# Altium integrated library Inductor.IntLib: 6 symbols
Pins are listed as number, name and electrical type; pins without a type are passive.

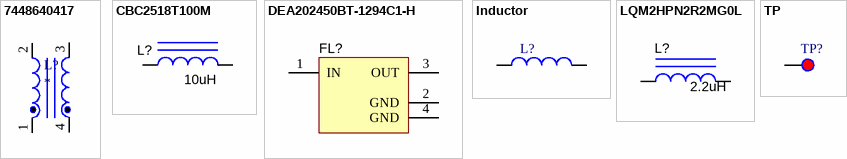
[diagram p0: symbols 7448640417 to TP]

## 7448640417
designator L?
footprint 7448640417
pins: 1, 2, 3, 4

## CBC2518T100M
designator L?  value 10uH  (hidden comment: CBC2518T100M)
Inductor, Wirewound, Ceramic, 10 µH, 0.48 A, 0.36 ohm, SMD; Manufacturer: Taiyo Yuden; Ind_H: 10.0E-6; ValueDisplayed: 10µH; Imax_A: 0.48; Irms: 0.68A @ 40C rise; Isat: 0.48A @ 30% inductance drop; DCR_ohm: 0.36; Value2: 0.48A; SymbolVersion: 2008-07-23; CompType: Inductor; PartNumber: CBC2518T100M; Value1: 0.36 ohm; Technology: Wirewound; MountType: SMT; Material: Ceramic; PackageReference: 2.5x1.8x1.8mm; Published: 2008-06-26; Publisher: Texas Instruments; LatestRevisionDate: 2015-02-17; ComponentLink1Description: Datasheet link; ComponentLink1URL: http://www.yuden.co.jp/productdata/catalog/en/wound02_e.pdf; RoHS: Y; Supplier 1: Digi-Key; Supplier Part Number 1: 587-1613-1-ND; Supplier 2: Farnell; Supplier Part Number 2: 1786111
signal-integrity model Inductor
simulation model Inductor
footprint CBC2518
pins: 1, 2

## DEA202450BT-1294C1-H
designator FL?  (value not drawn)
Multilayer Chip Band Pass Filter For 2.4GHz W-LAN/Bluetooth, SMD; Manufacturer: TDK; SymbolCreator: Altium; Value: 1.02 dB; SymbolVersion: 2015-01-04; PartNumber: DEA202450BT-1294C1-H; CompType: Filter; MountType: SMT; ComponentLink1Description: Datasheet Link; ComponentLink1URL: http://product.tdk.com/en/catalog/datasheets/rf_bpf_dea202450bt-1294c1-h_en.pdf; RoHS: Y; PackageReference: 2x1.25mm; Publisher: Texas Instruments; LatestRevisionDate: 2015-02-19; Supplier 1: Digi-Key; Supplier Part Number 1: 445-172335-1-ND; Supplier 2: Mouser; Supplier Part Number 2: 810-DEA202450BT1294C
footprint TDK_DEA202450BT-1294C1-H
pins: 1 IN, 2 GND (power), 3 OUT, 4 GND (power)

## Inductor
designator L?
footprint VLCF5020-1
footprint TSL0709RA-102KR19-PF
pins: 1, 2

## LQM2HPN2R2MG0L
designator L?  value 2.2uH  (hidden comment: LQM2HPN2R2MG0L)
Inductor, Multilayer, Ferrite, 2.2 µH, 1.3 A, 0.08 ohm, SMD; Manufacturer: MuRata; Ind_H: 2.2E-6; ValueDisplayed: 2.2µH; Imax_A: 1.3; Irms: 1.3A @ 40C rise; DCR_ohm: 0.08; Value2: 1.3A; SymbolVersion: 2008-07-23; CompType: Inductor; PartNumber: LQM2HPN2R2MG0L; Value1: 0.08 ohm; Technology: Multilayer; MountType: SMT; Material: Ferrite; PackageReference: SMD, Body 2.5x2mm, Height 1.2mm; Published: 2008-06-26; Publisher: Texas Instruments; LatestRevisionDate: 2015-03-02; ComponentLink1Description: Datasheet link; ComponentLink1URL: http://psearch.murata.com/inductor/product/LQM2HPN2R2MG0%23.pdf; RoHS: Y; Supplier 1: Digi-Key; Supplier Part Number 1: 490-5114-1-ND; Supplier 2: Mouser; Supplier Part Number 2: 81-LQM2HPN2R2MG0L
footprint 1008
pins: 1, 2

## TP
designator TP?
footprint TP
pins: 1